# Altium footprint library Switch_ICs.PcbLib: 2 footprints
Each footprint in its own frame and in the unit in brackets; x right, y up, seen from the top. Pads: shape width x height; smd on the part's side, far side on the other; paste and mask are expansions set on the pad; w line width, h text height; cw(c..) or ccw(c..) is an arc to the next point about the centre after c.
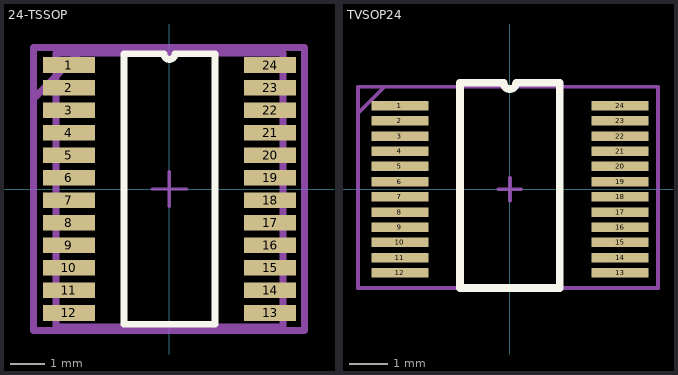
[diagram p0: the footprints below, top view; thin cyan lines are the x and y axes]

## 24-TSSOP [mm]
pads (24):
  rect 1.5x0.45 smd: 1(-2.9,3.575) 2(-2.9,2.925) 3(-2.9,2.275) 4(-2.9,1.625) 5(-2.9,0.975) 6(-2.9,0.325) 7(-2.9,-0.325) 8(-2.9,-0.975) 9(-2.9,-1.625) 10(-2.9,-2.275) 11(-2.9,-2.925) 12(-2.9,-3.575) 13(2.9,-3.575) 14(2.9,-2.925) 15(2.9,-2.275) 16(2.9,-1.625) 17(2.9,-0.975) 18(2.9,-0.325) 19(2.9,0.325) 20(2.9,0.975) 21(2.9,1.625) 22(2.9,2.275) 23(2.9,2.925) 24(2.9,3.575)
Top Overlay:
  lines w0.2: -1.315,-3.9 -1.315,3.9 -0.162,3.9 ccw(c0,3.9) 0.162,3.9 1.315,3.9 1.315,-3.9 -1.315,-3.9
Top Solder:
  rectangle: -3.775,-3.95 -2,3.9
  rectangle: 2,-3.925 3.775,3.925
Top Assembly:
  lines w0.2: -3.913,2.613 -2.463,4.063 ; -3.925,-4.075 -3.925,4.075 3.9,4.075 3.9,-4.075 -3.925,-4.075
  text "'.Designator'" at -4.497,4.72 h0.8
3D:
  lines w0.2: -3.275,-3.975 3.275,-3.975 3.275,3.925 -3.275,3.925 -3.275,-3.975
Mechanical 15:
  lines w0.1: -0.5,0 0.5,0 ; 0,-0.5 0,0.5
  lines w0.2: -3.925,-4.075 3.9,-4.075 3.9,4.075 -3.925,4.075 -3.925,-4.075
3D body "User Library-TSSOP24_(JEDEC_MO-153).STEP": height 1.2, standoff 0, extent -3.278,-3.975 3.278,3.925

## TVSOP24 [mm]
pads (24):
  rect 1.5x0.25 smd: 1(-2.9,2.2) 2(-2.9,1.8) 3(-2.9,1.4) 4(-2.9,1) 5(-2.9,0.6) 6(-2.9,0.2) 7(-2.9,-0.2) 8(-2.9,-0.6) 9(-2.9,-1) 10(-2.9,-1.4) 11(-2.9,-1.8) 12(-2.9,-2.2) 13(2.9,-2.2) 14(2.9,-1.8) 15(2.9,-1.4) 16(2.9,-1) 17(2.9,-0.6) 18(2.9,-0.2) 19(2.9,0.2) 20(2.9,0.6) 21(2.9,1) 22(2.9,1.4) 23(2.9,1.8) 24(2.9,2.2)
Top Overlay:
  lines w0.2: -1.315,-2.6 -1.315,2.8 -0.162,2.8 ccw(c0,2.8) 0.162,2.8 1.315,2.8 1.315,-2.6 -1.315,-2.6
  text "." at -4.447,3.053 h0.8
Top Assembly:
  lines w0.1: -4,2 -3.3,2.7 ; -4,-2.6 3.9,-2.6 3.9,2.7 -4,2.7 -4,-2.6
  text "'.Designator'" at -1.446,6.562 h1.52
Mechanical 15:
  lines w0.1: -4,2 -3.3,2.7 ; -0.3,0 0.3,0 ; 0,-0.3 0,0.3 ; -4,-2.6 3.9,-2.6 3.9,2.7 -4,2.7 -4,-2.6
3D body "TVSOP24.stp": height 1.19, standoff -0.02, extent -3.287,-2.448 3.287,2.548